# Altium schematic symbol library Plain Ji_SCH_Lib.SchLib: 40 symbols
Pins are listed as number, name and electrical type; pins without a type are passive.

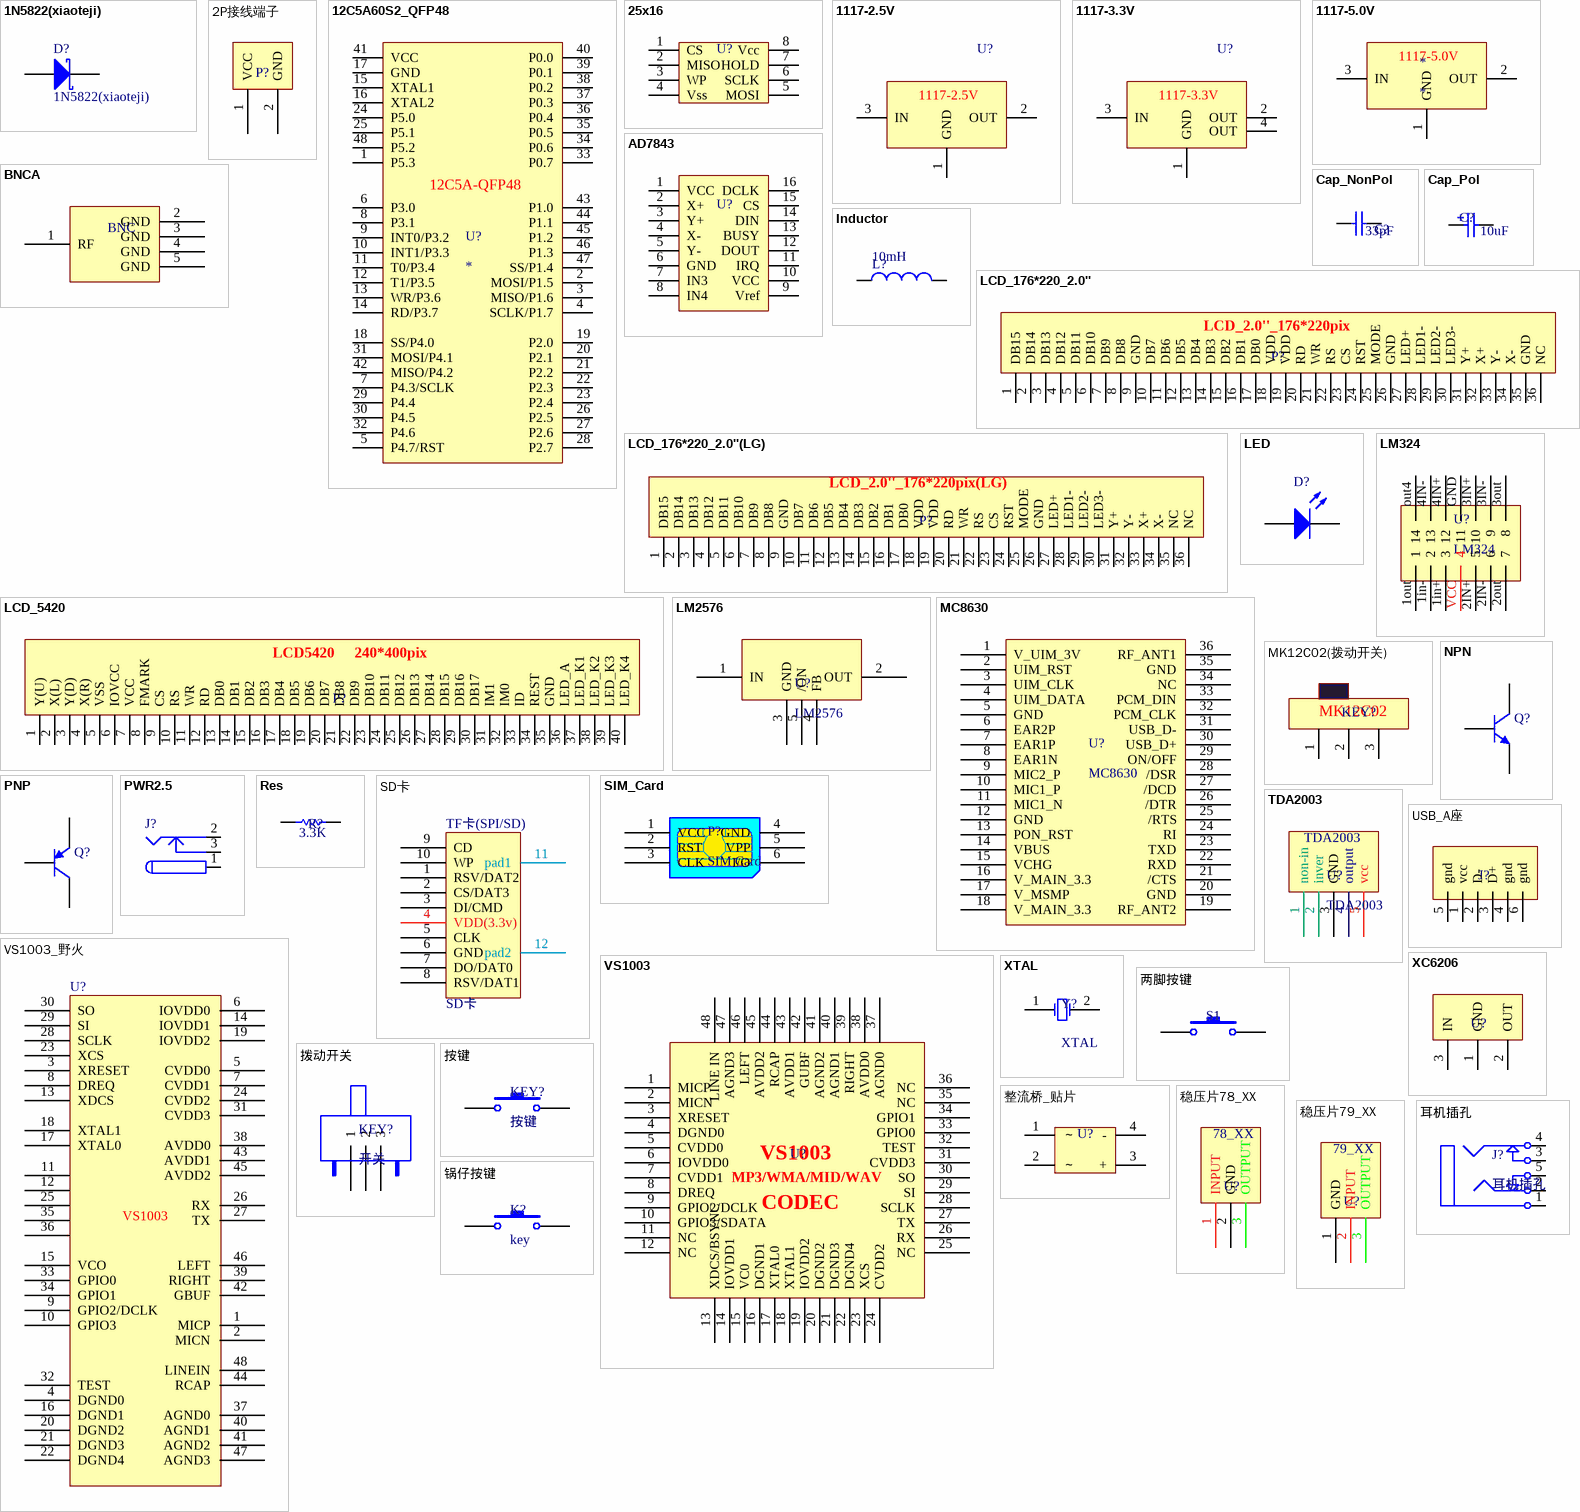
[diagram p0: symbols 1N5822(xiaoteji) to 锅仔按键]

## 1N5822(xiaoteji)
designator D?
Silicon AF Schottky Diode for High-Speed Switching; Note: Pin 2 is not connected and not drawn.; Published: 21-Mar-2003; LatestRevisionDate: 29-May-2009; LatestRevisionNote: IPC-7351 Footprint Added.; DatasheetVersion: Oct-1999; PackageVersion: Sep-2001; PackageReference: SOT-23; Publisher: Altium Limited; PackageDescription: 3-Pin SOT-23 Package 0.95 mm Pitch, 2.5 mm Lead Span; ComponentLink1Description: Manufacturer Link; ComponentLink1URL: http://www.infineon.com/; ComponentLink2Description: Datasheet; ComponentLink2URL: http://www.infineon.com/upload/Document/cmc_upload/documents/009/382/bas40_bas140series_1.pdf
footprint 1N5822
pins: 1 A, 3 K

## 2P接线端子
designator P?  (value not drawn)
footprint 2P端子
pins: 1 VCC, 2 GND

## 12C5A60S2_QFP48
designator U?
footprint VS1003 (LQFP48D0_40REXT9_0Y9_0)
pins: 1 P5.3, 2 MOSI/P1.5, 3 MISO/P1.6, 4 SCLK/P1.7, 5 P4.7/RST, 6 P3.0, 7 P4.3/SCLK, 8 P3.1, 9 INT0/P3.2, 10 INT1/P3.3, 11 T0/P3.4, 12 T1/P3.5, 13 WR/P3.6, 14 RD/P3.7, 15 XTAL1, 16 XTAL2, 17 GND, 18 SS/P4.0, 19 P2.0, 20 P2.1, 21 P2.2, 22 P2.3, 23 P2.4, 24 P5.0, 25 P5.1, 26 P2.5, 27 P2.6, 28 P2.7, 29 P4.4, 30 P4.5, 31 MOSI/P4.1, 32 P4.6, 33 P0.7, 34 P0.6, 35 P0.5, 36 P0.4, 37 P0.3, 38 P0.2, 39 P0.1, 40 P0.0, 41 VCC, 42 MISO/P4.2, 43 P1.0, 44 P1.1, 45 P1.2, 46 P1.3, 47 SS/P1.4, 48 P5.2
text: 12C5A-QFP48

## 25x16
designator U?  (value not drawn)
SPI FLASH
footprint SOP8 (25X16)
pins: 1 CS, 2 MISO, 3 WP, 4 Vss, 5 MOSI, 6 SCLK, 7 HOLD, 8 Vcc

## 1117-2.5V
designator U?  (value not drawn)
footprint SOT223 (SOT-223/SC-73; 4 Leads; Body 6.7 x 7.3 mm, inc. leads (LxW max))
pins: 1 GND, 2 OUT, 3 IN

## 1117-3.3V
designator U?  (value not drawn)
footprint SOT223 (SOT-223/SC-73; 4 Leads; Body 6.7 x 7.3 mm, inc. leads (LxW max))
pins: 1 GND, 2 OUT, 3 IN, 4 OUT

## 1117-5.0V
designator *
footprint SOT223
pins: 1 GND, 2 OUT, 3 IN

## AD7843
designator U?  (value not drawn)
TOUCH_AD7843
footprint TSSOP16
pins: 1 VCC, 2 X+, 3 Y+, 4 X-, 5 Y-, 6 GND, 7 IN3, 8 IN4, 9 Vref, 10 VCC, 11 IRQ, 12 DOUT, 13 BUSY, 14 DIN, 15 CS, 16 DCLK

## BNCA
designator BNC  (value not drawn)
footprint BNCA
pins: 1 RF, 2 GND, 3 GND, 4 GND, 5 GND

## Cap_NonPol
designator C?  value 33pF  (hidden comment: Cap_NonPol)
Capacitor (Semiconductor SIM Model); Published: 8-Jun-2000; LatestRevisionDate: 17-Jul-2002; LatestRevisionNote: Re-released for DXP Platform.; PackageReference: C1206; Publisher: Altium Limited
footprint C0805 (Chip Capacitor; Body 2.0 x 1.2 mm (LxW typ))
footprint HDR1X2
pins: 1, 2

## Cap_Pol
designator C?  value 10uF  (hidden comment: Cap_Pol)
Polarized Capacitor (Radial); Published: 8-Jun-2000; LatestRevisionDate: 17-Jul-2002; LatestRevisionNote: Re-released for DXP Platform.; PackageReference: RB7.6-15; Publisher: Altium Limited
footprint C0805 (Chip Capacitor; Body 2.0 x 1.2 mm (LxW typ))
footprint HDR1X2
pins: 1, 2
1 alternate drawing of the same symbol

## Inductor
designator L?  value 10mH
Inductor; Code_IEC: 1005; Published: 8-Jun-2000; LatestRevisionDate: 29-May-2009; LatestRevisionNote: IPC-7351 Footprint Added.; PackageReference: 0402-A; Publisher: Altium Limited; PackageDescription: Chip Inductor; Code_JEITA: 0402
footprint INDC1005AL (Chip Inductor, Body 1.0x0.5mm, IPC High Density)
footprint INDC1608L (Chip Inductor, Body 1.6x0.8mm, IPC High Density)
footprint INDC2012L (Chip Inductor, Body 2.0x1.2mm, IPC High Density)
footprint INDC0603L (Chip Inductor, Body 0.6x0.3mm, IPC High Density)
footprint INDC3216AL (Chip Inductor, Body 3.2x1.6mm, IPC High Density)
footprint INDC4532L (Chip Inductor, Body 4.5x3.2mm, IPC High Density)
footprint inductor
pins: 1, 2

## LCD_176*220_2.0''
designator P?  (value not drawn)
LCD_176*220_2.0''
footprint LCD_2.0''_176*220pix
pins: 1 DB15, 2 DB14, 3 DB13, 4 DB12, 5 DB11, 6 DB10, 7 DB9, 8 DB8, 9 GND, 10 DB7, 11 DB6, 12 DB5, 13 DB4, 14 DB3, 15 DB2, 16 DB1, 17 DB0, 18 VDD, 19 VDD, 20 RD, 21 WR, 22 RS, 23 CS, 24 RST, 25 MODE, 26 GND, 27 LED+, 28 LED1-, 29 LED2-, 30 LED3-, 31 Y+, 32 X+, 33 Y-, 34 X-, 35 GND, 36 NC
text: LCD_2.0''_176*220pix

## LCD_176*220_2.0''(LG)
designator P?  (value not drawn)
LCD_176*220_2.0''
footprint LCD_2.0''_176*220pix(LG4525)
pins: 1 DB15, 2 DB14, 3 DB13, 4 DB12, 5 DB11, 6 DB10, 7 DB9, 8 DB8, 9 GND, 10 DB7, 11 DB6, 12 DB5, 13 DB4, 14 DB3, 15 DB2, 16 DB1, 17 DB0, 18 VDD, 19 VDD, 20 RD, 21 WR, 22 RS, 23 CS, 24 RST, 25 MODE, 26 GND, 27 LED+, 28 LED1-, 29 LED2-, 30 LED3-, 31 Y+, 32 Y-, 33 X+, 34 X-, 35 NC, 36 NC
text: LCD_2.0''_176*220pix(LG)

## LCD_5420
designator P?  (value not drawn)
LCD5420
footprint LCD5420
pins: 1 Y(U), 2 X(L), 3 Y(D), 4 X(R), 5 VSS, 6 IOVCC, 7 VCC, 8 FMARK, 9 CS, 10 RS, 11 WR, 12 RD, 13 DB0, 14 DB1, 15 DB2, 16 DB3, 17 DB4, 18 DB5, 19 DB6, 20 DB7, 21 DB8, 22 DB9, 23 DB10, 24 DB11, 25 DB12, 26 DB13, 27 DB14, 28 DB15, 29 DB16, 30 DB17, 31 IM1, 32 IM0, 33 ID, 34 REST, 35 GND, 36 LED_A, 37 LED_K1, 38 LED_K2, 39 LED_K3, 40 LED_K4
text: LCD5420     240*400pix

## LED
designator D?  (value not drawn)
Typical INFRARED GaAs LED; Published: 8-Jun-2000; LatestRevisionDate: 08-Jul-2005; LatestRevisionNote: Mech Layer 1 removed.; PackageReference: LED-0; Publisher: Altium Limited
footprint 2012[0805] (Chip Resistor; Body 2.0 x 1.3 mm (LxW typ))
pins: 1 A, 2 K

## LM324
designator U?
footprint LM324
pins: 1in+ 3, 1in- 2, 1out 1, 2IN+ 5, 2IN- 6, 2out 7, 3IN+ 10, 3IN- 9, 3out 8, 4IN+ 12, 4IN- 13, GND 11, out4 14, VCC 4

## LM2576
designator U?
footprint TO-263
pins: 1 IN, 2 OUT, 3 GND, 4 FB, 5 /ON

## MC8630
designator U?
footprint MC8630
pins: 1 V_UIM_3V, 2 UIM_RST, 3 UIM_CLK, 4 UIM_DATA, 5 GND, 6 EAR2P, 7 EAR1P, 8 EAR1N, 9 MIC2_P, 10 MIC1_P, 11 MIC1_N, 12 GND, 13 PON_RST, 14 VBUS, 15 VCHG, 16 V_MAIN_3.3, 17 V_MSMP, 18 V_MAIN_3.3, 19 RF_ANT2, 20 GND, 21 /CTS, 22 RXD, 23 TXD, 24 RI, 25 /RTS, 26 /DTR, 27 /DCD, 28 /DSR, 29 ON/OFF, 30 USB_D+, 31 USB_D-, 32 PCM_CLK, 33 PCM_DIN, 34 NC, 35 GND, 36 RF_ANT1

## MK12C02(拨动开关)
designator KEY?  (value not drawn)
footprint MK12C02(拨动开关)
pins: 1, 2, 3
text: MK12C02

## NPN
designator Q?
NPN Bipolar Transistor; Published: 8-Jun-2000; LatestRevisionDate: 17-Jul-2002; LatestRevisionNote: Re-released for DXP Platform.; PackageReference: TO-226; Publisher: Altium Limited; Code_JEDEC: TO-226-AA
footprint SOT-23
simulation model NPN
signal-integrity model NPN
footprint HDR1X3 (Connector; Header; 3 Position)
pins: 1 B, 2 E, 3 C

## PNP
designator Q?
PNP Bipolar Transistor; Published: 8-Jun-2000; LatestRevisionDate: 17-Jul-2002; LatestRevisionNote: Re-released for DXP Platform.; PackageReference: SOT-23B; Publisher: Altium Limited; Code_JEDEC: SOT-23
footprint SOT-23
simulation model PNP
signal-integrity model PNP
footprint HDR1X3 (Connector; Header; 3 Position)
pins: 1 B, 2 E, 3 C

## PWR2.5
designator J?
Low Voltage Power Supply Connector; Published: 17-Dec-2003; DatasheetDocument: 09-May-2002; Publisher: Altium Limited; ComponentLink1Description: Manufacturer Link; ComponentLink1URL: http://domino.kycon.com/internet/Products.html
footprint 电源插口 (DC Power Jack, 2.5mm, KLD Series, PCB Mount)
signal-integrity model Connector
pins: 1 (power), 2 (power), 3 (power)

## Res
designator R?  value 3.3K  (hidden comment: Res)
Semiconductor Resistor; Published: 8-Jun-2000; LatestRevisionDate: 17-Jul-2002; LatestRevisionNote: Re-released for DXP Platform.; PackageReference: AXIAL-0.5; Publisher: Altium Limited
footprint 2012[0805] (Chip Resistor; Body 2.0 x 1.3 mm (LxW typ))
pins: 1, 2

## SD卡
designator TF卡(SPI/SD)
footprint microSD_ZISUO
pins: 1 RSV/DAT2, 2 CS/DAT3, 3 DI/CMD, 4 VDD(3.3v), 5 CLK, 6 GND, 7 DO/DAT0, 8 RSV/DAT1, 9 CD, 10 WP, 11 pad1, 12 pad2

## SIM_Card
designator P?, comment SIM Card
footprint SIM翻盖卡座
pins: 1 VCC, 2 RST, 3 CLK, 4 GND, 5 VPP, 6 I/O

## TDA2003
designator U?
footprint TDA2003
pins: 1 non-in, 2 inver, 3 GND, 4 output, 5 vcc

## USB_A座
designator J?  (value not drawn)
footprint USB-2.0/F
pins: 1 vcc, 2 D-, 3 D+, 4 gnd, 5 gnd, 6 gnd

## VS1003
designator U?  (value not drawn)
footprint VS1003 (LQFP48D0_40REXT9_0Y9_0)
pins: 1 MICP, 2 MICN, 3 XRESET, 4 DGND0, 5 CVDD0, 6 IOVDD0, 7 CVDD1, 8 DREQ, 9 GPIO2/DCLK, 10 GPIO3/SDATA, 11 NC, 12 NC, 13 XDCS/BSYNC, 14 IOVDD1, 15 VC0, 16 DGND1, 17 XTAL0, 18 XTAL1, 19 IOVDD2, 20 DGND2, 21 DGND3, 22 DGND4, 23 XCS, 24 CVDD2, 25 NC, 26 RX, 27 TX, 28 SCLK, 29 SI, 30 SO, 31 CVDD3, 32 TEST, 33 GPIO0, 34 GPIO1, 35 NC, 36 NC, 37 AGND0, 38 AVDD0, 39 RIGHT, 40 AGND1, 41 AGND2, 42 GUBF, 43 AVDD1, 44 RCAP, 45 AVDD2, 46 LEFT, 47 AGND3, 48 LINE IN
text: MP3/WMA/MID/WAV; CODEC

## VS1003_野火
designator U?  (value not drawn)
footprint VS1003 (QFP48-S)
pins: 1 MICP, 2 MICN, 3 XRESET, 4 DGND0, 5 CVDD0, 6 IOVDD0, 7 CVDD1, 8 DREQ, 9 GPIO2/DCLK, 10 GPIO3, 11, 12, 13 XDCS, 14 IOVDD1, 15 VCO, 16 DGND1, 17 XTAL0, 18 XTAL1, 19 IOVDD2, 20 DGND2, 21 DGND3, 22 DGND4, 23 XCS, 24 CVDD2, 25, 26 RX, 27 TX, 28 SCLK, 29 SI, 30 SO, 31 CVDD3, 32 TEST, 33 GPIO0, 34 GPIO1, 35, 36, 37 AGND0, 38 AVDD0, 39 RIGHT, 40 AGND1, 41 AGND2, 42 GBUF, 43 AVDD1, 44 RCAP, 45 AVDD2, 46 LEFT, 47 AGND3, 48 LINEIN
text: VS1003

## XC6206
designator U?
LDO for MP3
footprint SOT-23
pins: 1 GND, 2 OUT, 3 IN

## XTAL
designator Y?
Crystal Oscillator; Published: 8-Jun-2000; LatestRevisionDate: 17-Jul-2002; LatestRevisionNote: Re-released for DXP Platform.; PackageReference: R38; Publisher: Altium Limited
footprint XTAL
footprint XTAL_US
pins: 1 OSC1, 2 OSC2

## 两脚按键
designator S1
footprint 两脚按键
pins: 1, 2

## 拨动开关
designator KEY?, comment 开关
footprint 拨动开关
pins: 1, 2, 3

## 按键
designator KEY?
footprint 按键
pins: 1, 2

## 整流桥_贴片
designator U?  (value not drawn)
footprint 整流桥
pins: 1 ～, 2 ～, 3 +, 4 -

## 稳压片78_XX
designator U?  (value not drawn)
footprint 稳压片
pins: 1 INPUT, 2 GND, 3 OUTPUT
text: 78_XX

## 稳压片79_XX
designator U?  (value not drawn)
footprint 稳压片
pins: 1 GND, 2 INPUT, 3 OUTPUT
text: 79_XX

## 耳机插孔
designator J?
footprint 耳机
pins: 1, 2, 3, 4, 5

## 锅仔按键
designator K?, comment key
footprint 锅仔按键; pin to pad 2>4
pins: 1, 2